# Altium footprint library Resistors SMD.PcbLib: 60 footprints (part 1 of 4)
Each footprint in its own frame and in the unit in brackets; x right, y up, seen from the top. Pads: shape width x height; smd on the part's side, far side on the other; paste and mask are expansions set on the pad; w line width, h text height; cw(c..) or ccw(c..) is an arc to the next point about the centre after c.
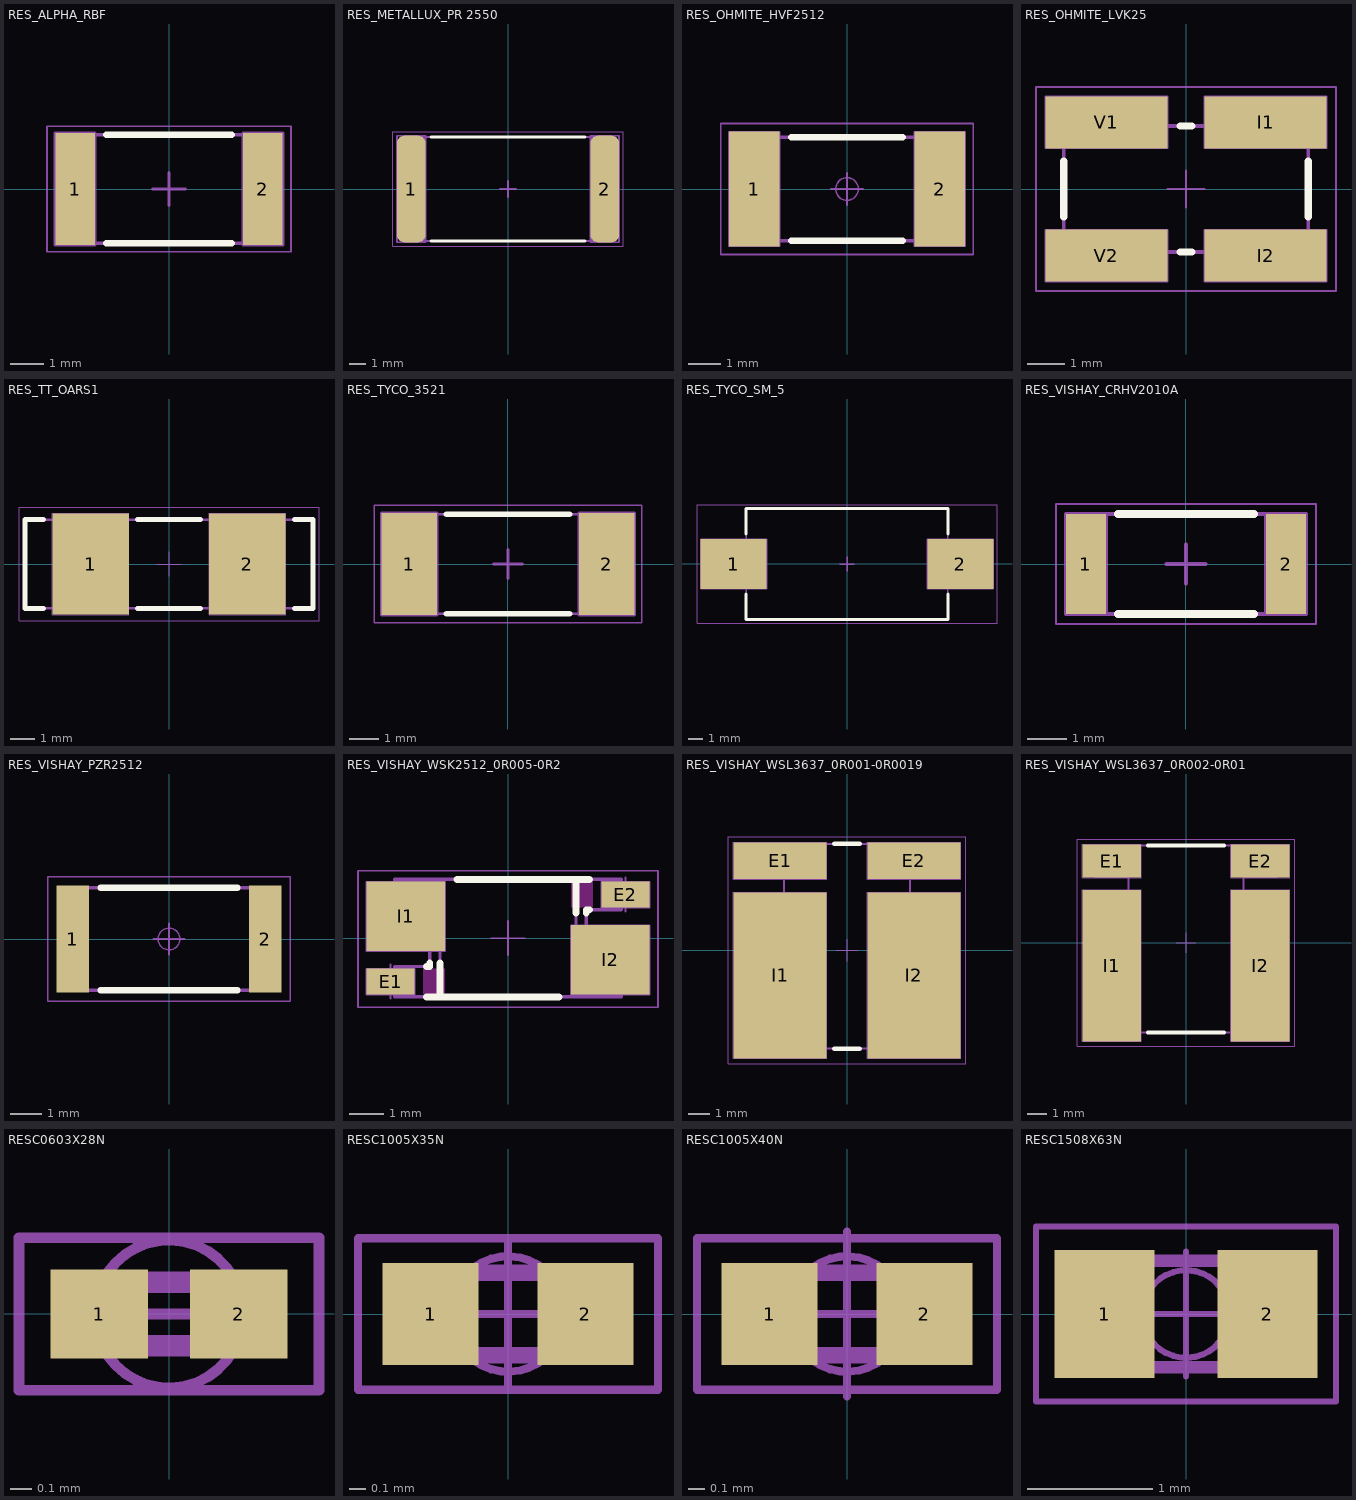
[diagram p0: the footprints below, top view; thin cyan lines are the x and y axes]

## RES_ALPHA_RBF [mm] "Chip Resistor, EIA 2512, Metric 6332, 2-Leads, Body 6.3mm L X 3.20mm W X 1.05mm H, ALPHA ELECTRONICS RBF Series"
height 1.05
pads (2):
  rect 1.2x3.4 smd: 1(-2.85,0) 2(2.85,0)
Top Overlay:
  lines w0.2: -1.9,-1.65 1.9,-1.65 ; -1.9,1.65 1.9,1.65
Mechanical 8:
  lines w0.1: -3.35,0 -2.85,0 ; -2.85,-0.5 -2.85,0 ; -2.85,0.5 -2.85,0 ; -2.35,0 -2.85,0 ; -0.5,0 0,0 ; 0,-0.5 0,0 ; 0,0.5 0,0 ; 0.5,0 0,0 ; 2.35,0 2.85,0 ; 2.85,-0.5 2.85,0 ; 2.85,0.5 2.85,0 ; 3.35,0 2.85,0 ; -3.45,-1.7 -2.25,-1.7 -2.25,1.7 -3.45,1.7 -3.45,-1.7 ; 2.25,-1.7 3.45,-1.7 3.45,1.7 2.25,1.7 2.25,-1.7
Mechanical 14:
  lines w0.1: -3.2,-1.65 -3.2,1.65 3.2,1.65 3.2,-1.65 -3.2,-1.65
Mechanical 15:
  lines w0.05: -3.7,-1.9 -3.7,1.9 3.7,1.9 3.7,-1.9 -3.7,-1.9
3D body "RES_ALPHA_RBF.stp": height 1.05, standoff 0, extent -3.2,-1.65 3.2,1.65

## RES_METALLUX_PR 2550 [mm] "High Voltage Resistor SMD Resistor, 2-Leads, Body 12.7 x 6.35 mm, IPC Medium Density"
height 1.52
pads (2):
  rrect50% 1.75x6.5 smd: 1(-5.9,0) 2(5.9,0)
Top Overlay:
  lines w0.2: -4.68,-3.175 4.68,-3.175 ; -4.68,3.175 4.68,3.175
Mechanical 8:
  lines w0.1: -6.4,0 -5.9,0 ; -5.9,-0.5 -5.9,0 ; -5.9,0.5 -5.9,0 ; -5.4,0 -5.9,0 ; -0.5,0 0,0 ; 0,-0.5 0,0 ; 0,0.5 0,0 ; 0.5,0 0,0 ; 5.4,0 5.9,0 ; 5.9,-0.5 5.9,0 ; 5.9,0.5 5.9,0 ; 6.4,0 5.9,0 ; -6.775,-3.25 -6.775,3.25 -5.025,3.25 -5.025,-3.25 -6.775,-3.25 ; 5.025,-3.25 5.025,3.25 6.775,3.25 6.775,-3.25 5.025,-3.25
Mechanical 14:
  lines w0.1: -6.35,-3.175 -6.35,3.175 ; -6.35,-3.175 6.35,-3.175 ; -6.35,-3.175 -5.08,-3.175 -5.08,3.175 -6.35,3.175 ; -6.35,-3.175 -6.35,3.175 ; -6.35,3.175 6.35,3.175 ; 6.35,-3.175 6.35,3.175 ; 6.35,-3.175 6.35,3.175 ; 6.35,-3.175 5.08,-3.175 5.08,3.175 6.35,3.175
Mechanical 15:
  lines w0.05: -7.025,-3.5 7.025,-3.5 7.025,3.5 -7.025,3.5 -7.025,-3.5
3D body "RES_METALLUX_PR 2550.stp": height 1.52, standoff 0, extent -6.35,-3.175 6.35,3.175

## RES_OHMITE_HVF2512 [mm] "Resistor, Chip; 6.4mm L X 3.2mm W X 0.81mm H, IPC Medium Density"
height 0.81
pads (2):
  rect 1.57x3.55 smd: 1(-2.87,0) 2(2.87,0)
Top Overlay:
  lines w0.2: -1.733,-1.6 1.733,-1.6 ; -1.733,1.6 1.733,1.6
Mechanical 8:
  lines w0.05: -3.37,0 -2.87,0 ; -2.87,-0.5 -2.87,0 ; -2.87,0.5 -2.87,0 ; -2.37,0 -2.87,0 ; -0.5,0 0,0 ; 0,-0.5 0,0 ; 0,0.5 0,0 ; 0.5,0 0,0 ; 2.37,0 2.87,0 ; 2.87,-0.5 2.87,0 ; 2.87,0.5 2.87,0 ; 3.37,0 2.87,0 ; -3.658,-1.778 -2.083,-1.778 -2.083,1.778 -3.658,1.778 -3.658,-1.778 ; 2.083,-1.778 2.083,1.778 3.658,1.778 3.658,-1.778 2.083,-1.778
Mechanical 14:
  lines w0.1: -3.2,-1.6 3.2,-1.6 3.2,1.6 -3.2,1.6 -3.2,-1.6
Mechanical 15:
  circle w0.05: c0,0 r0.35
  lines w0.05: -0.5,0 0.5,0 ; 0,-0.5 0,0.5 ; -3.908,-2.028 3.908,-2.028 3.908,2.028 -3.908,2.028 -3.908,-2.028
3D body "RES_OHMITE_HVF2512.stp": height 0.81, standoff 0, extent -3.2,-1.6 3.2,1.6

## RES_OHMITE_LVK25 [mm] "Resistor Four Terminal High Precision Current Sense, Chip; 3.2mm L X 6.4mm W X 0.7mm H"
height 0.7
pads (4):
  rect 3.3x1.4 smd: I1(2.15,1.8) I2(2.15,-1.8) V1(-2.15,1.8) V2(-2.15,-1.8)
Top Overlay:
  lines w0.2: -3.3,-0.75 -3.3,0.75 ; -0.15,-1.7 0.15,-1.7 ; -0.15,1.7 0.15,1.7 ; 3.3,-0.75 3.3,0.75
Mechanical 8:
  lines w0.05: -2.65,-1.8 -2.15,-1.8 ; -2.65,1.8 -2.15,1.8 ; -2.15,-2.3 -2.15,-1.8 ; -2.15,-1.3 -2.15,-1.8 ; -2.15,1.3 -2.15,1.8 ; -2.15,2.3 -2.15,1.8 ; -1.65,-1.8 -2.15,-1.8 ; -1.65,1.8 -2.15,1.8 ; 0,-0.5 0,0 ; 0,0.5 0,0 ; 0.5,0 0,0 ; 1.65,-1.8 2.15,-1.8 ; 1.65,1.8 2.15,1.8 ; 2.15,-2.3 2.15,-1.8 ; 2.15,-1.3 2.15,-1.8 ; 2.15,1.3 2.15,1.8 ; 2.15,2.3 2.15,1.8 ; 2.65,-1.8 2.15,-1.8 ; 2.65,1.8 2.15,1.8 ; 0,0 -0.5,0 0,0 ; -3.8,-2.5 -0.5,-2.5 -0.5,-1.1 -3.8,-1.1 -3.8,-2.5 ; -3.8,1.1 -3.8,2.5 -0.5,2.5 -0.5,1.1 -3.8,1.1 ; 0.5,-2.5 3.8,-2.5 3.8,-1.1 0.5,-1.1 0.5,-2.5 ; 0.5,1.1 3.8,1.1 3.8,2.5 0.5,2.5 0.5,1.1
Mechanical 14:
  lines w0.1: -3.3,-1.7 3.3,-1.7 3.3,1.7 -3.3,1.7 -3.3,-1.7
Mechanical 15:
  lines w0.05: -4.05,-2.75 4.05,-2.75 4.05,2.75 -4.05,2.75 -4.05,-2.75
3D body "RES_OHMITE_LVK25.stp": height 0.7, standoff 0, extent -3.2,-1.6 3.2,1.6

## RES_TT_OARS1 [mm] "CSurface Mount Sense Resistors"
height 3.81
pads (2):
  rect 3.07x4.07 smd: 1(-3.15,0) 2(3.15,0)
Top Overlay:
  lines w0.2: -5.035,-1.78 -5.78,-1.78 -5.78,1.78 -5.035,1.78 ; -1.265,-1.78 1.265,-1.78 ; -1.265,1.78 1.265,1.78 ; 5.035,-1.78 5.78,-1.78 5.78,1.78 5.035,1.78
Mechanical 8:
  lines w0.05: -3.65,0 -3.15,0 ; -3.15,-0.5 -3.15,0 ; -3.15,0.5 -3.15,0 ; -2.65,0 -3.15,0 ; -0.5,0 0,0 ; 0,-0.5 0,0 ; 0,0.5 0,0 ; 0.5,0 0,0 ; 2.65,0 3.15,0 ; 3.15,-0.5 3.15,0 ; 3.15,0.5 3.15,0 ; 3.65,0 3.15,0 ; -4.685,-2.035 -1.615,-2.035 -1.615,2.035 -4.685,2.035 -4.685,-2.035 ; 1.615,-2.035 4.685,-2.035 4.685,2.035 1.615,2.035 1.615,-2.035
Mechanical 14:
  lines w0.1: -5.78,-1.78 5.78,-1.78 5.78,1.78 -5.78,1.78 -5.78,-1.78
Mechanical 15:
  lines w0.05: -6.03,-2.285 -6.03,2.285 6.03,2.285 6.03,-2.285 -6.03,-2.285
3D body "RES_TT_OARS1.stp": height 3.81, standoff 0, extent -5.78,-1.78 5.78,1.78

## RES_TYCO_3521 [mm] "Chip Resistor, EIA 2512, Metric 6332, 2-Leads, Body 6.3x3.2mm, 3521 Serie"
height 0.65
pads (2):
  rect 1.9x3.5 smd: 1(-3.378,0) 2(3.378,0)
Top Overlay:
  lines w0.2: -2.1,-1.7 2.1,-1.7 ; -2.1,1.7 2.1,1.7
Mechanical 8:
  lines w0.1: -3.878,0 -3.378,0 ; -3.378,-0.5 -3.378,0 ; -3.378,0.5 -3.378,0 ; -2.878,0 -3.378,0 ; -0.5,0 0,0 ; 0,-0.5 0,0 ; 0,0.5 0,0 ; 0.5,0 0,0 ; 2.878,0 3.378,0 ; 3.378,-0.5 3.378,0 ; 3.378,0.5 3.378,0 ; 3.878,0 3.378,0 ; -4.328,-1.75 -2.428,-1.75 -2.428,1.75 -4.328,1.75 -4.328,-1.75 ; 2.428,-1.75 4.328,-1.75 4.328,1.75 2.428,1.75 2.428,-1.75
Mechanical 14:
  lines w0.1: -2.45,-1.7 -2.45,1.7 ; -2.1,-1.7 2.1,-1.7 ; 2.45,-1.7 2.45,1.7 ; -3.25,-1.7 3.25,-1.7 3.25,1.7 -3.25,1.7 -3.25,-1.7
Mechanical 15:
  lines w0.05: -4.578,-2 4.578,-2 4.578,2 -4.578,2 -4.578,-2
3D body "RES_TYCO_3521.stp": height 0.65, standoff 0, extent -3.25,-1.7 3.25,1.7

## RES_TYCO_SM_5 [mm] "Resistor, Molded Body; 17.00mm L X 7.30mm W X 7.10mm H, SM 5W Series"
height 7.1
pads (2):
  rect 4.5x3.4 smd: 1(-7.75,0) 2(7.75,0)
Top Overlay:
  lines w0.2: -6.9,-2.05 -6.9,-3.8 6.9,-3.8 6.9,-2.05 ; -6.9,2.05 -6.9,3.8 6.9,3.8 6.9,2.05
Mechanical 8:
  lines w0.1: -8.25,0 -7.75,0 ; -7.75,-0.5 -7.75,0 ; -7.75,0.5 -7.75,0 ; -7.25,0 -7.75,0 ; -0.5,0 0,0 ; 0,-0.5 0,0 ; 0,0.5 0,0 ; 0.5,0 0,0 ; 7.25,0 7.75,0 ; 7.75,-0.5 7.75,0 ; 7.75,0.5 7.75,0 ; 8.25,0 7.75,0 ; -10,-1.7 -5.5,-1.7 -5.5,1.7 -10,1.7 -10,-1.7 ; 5.5,-1.7 10,-1.7 10,1.7 5.5,1.7 5.5,-1.7
Mechanical 14:
  lines w0.1: -6.9,-3.8 6.9,-3.8 6.9,3.8 -6.9,3.8 -6.9,-3.8
Mechanical 15:
  lines w0.05: -10.25,-4.05 10.25,-4.05 10.25,4.05 -10.25,4.05 -10.25,-4.05
3D body "RES_TYCO_SM_5.stp": height 7.1, standoff 0, extent -8.5,-3.8 8.5,3.8

## RES_VISHAY_CRHV2010A [mm] "EIA 2010, Metric 5125, High Voltage Thick Film Chip Resistor, 5.08mm L X 2.54mm W X 0.69mm H"
height 0.69
pads (2):
  rect 1.02x2.54 smd: 1(-2.54,0) 2(2.54,0)
Top Overlay:
  lines w0.2: -1.73,-1.27 1.73,-1.27 ; -1.73,1.27 1.73,1.27
Mechanical 8:
  lines w0.1: -3.04,0 -2.54,0 ; -2.54,-0.5 -2.54,0 ; -2.54,0.5 -2.54,0 ; -2.04,0 -2.54,0 ; -0.5,0 0,0 ; 0,-0.5 0,0 ; 0,0.5 0,0 ; 0.5,0 0,0 ; 2.04,0 2.54,0 ; 2.54,-0.5 2.54,0 ; 2.54,0.5 2.54,0 ; 3.04,0 2.54,0 ; -3.05,-1.27 -2.03,-1.27 -2.03,1.27 -3.05,1.27 -3.05,-1.27 ; 2.03,-1.27 3.05,-1.27 3.05,1.27 2.03,1.27 2.03,-1.27
Mechanical 14:
  lines w0.1: -2.057,-1.27 -2.057,1.27 ; 2.057,-1.27 2.057,1.27 ; -2.54,-1.27 2.54,-1.27 2.54,1.27 -2.54,1.27 -2.54,-1.27
Mechanical 15:
  lines w0.05: -3.3,-1.52 3.3,-1.52 3.3,1.52 -3.3,1.52 -3.3,-1.52
3D body "RES_VISHAY_CRHV2010A.stp": height 0.69, standoff 0, extent -2.54,-1.27 2.54,1.27

## RES_VISHAY_PZR2512 [mm] "EIA 2512, Metric 6433, Resistor, Chip; 6.35mm L X 3.30mm W X 0.627mm H, IPC Medium Density"
height 0.627
pads (2):
  rect 1.05x3.45 smd: 1(-3.1,0) 2(3.1,0)
Top Overlay:
  lines w0.2: -2.2,-1.65 2.2,-1.65 ; -2.2,1.65 2.2,1.65
Mechanical 14:
  lines w0.1: -3.175,-1.65 -3.175,1.65 3.175,1.65 3.175,-1.65 -3.175,-1.65
Mechanical 15:
  circle w0.05: c0,0 r0.35
  lines w0.05: -0.5,0 0.5,0 ; 0,-0.5 0,0.5 ; -3.9,-2 -3.9,2 3.9,2 3.9,-2 -3.9,-2
3D body "RES_VISHAY_PZR2512.stp": height 0.63, standoff 0, extent -3.175,-1.65 3.175,1.65

## RES_VISHAY_WSK2512_0R005-0R2 [mm] "EIA 2512, Metric 6332, Current Sense Resistor, Chip, 0.89mm H, IPC Medium Density"
height 0.89
pads (4):
  rect 1.4x0.76 smd: E1(-3.43,-1.27) E2(3.43,1.27)
  rect 2.29x2.03 smd: I1(-2.985,0.635) I2(2.985,-0.635)
Top Layer keep-out:
  region: 2.48,1.65 1.84,1.65 1.84,0.89 2.48,0.89
  rectangle: -2.48,-1.65 -1.84,-0.89
Top Overlay:
  lines w0.2: -2.38,-1.717 -1.985,-1.717 ; -2.38,-0.828 -2.286,-0.828 -2.286,-0.73 ; -1.49,1.717 1.985,1.717 ; 1.49,-1.717 -1.985,-1.717 ; 1.985,0.73 1.985,1.717 ; 2.286,0.73 2.286,0.828 2.38,0.828 ; 2.38,1.717 1.985,1.717 ; -1.985,-1.717 -1.985,-0.73 -1.985,-1.717
Mechanical 8:
  lines w0.05: -3.93,-1.27 -3.43,-1.27 ; -3.485,0.635 -2.985,0.635 ; -3.43,-1.77 -3.43,-1.27 ; -3.43,-0.77 -3.43,-1.27 ; -2.985,0.135 -2.985,0.635 ; -2.985,1.135 -2.985,0.635 ; -2.93,-1.27 -3.43,-1.27 ; -2.485,0.635 -2.985,0.635 ; -0.5,0 0,0 ; 0,-0.5 0,0 ; 0,0.5 0,0 ; 0.5,0 0,0 ; 2.485,-0.635 2.985,-0.635 ; 2.93,1.27 3.43,1.27 ; 2.985,-1.135 2.985,-0.635 ; 2.985,-0.135 2.985,-0.635 ; 3.43,0.77 3.43,1.27 ; 3.43,1.77 3.43,1.27 ; 3.485,-0.635 2.985,-0.635 ; 3.93,1.27 3.43,1.27 ; -4.13,-1.65 -2.73,-1.65 -2.73,-0.89 -4.13,-0.89 -4.13,-1.65 ; -4.13,-0.38 -4.13,1.65 -1.84,1.65 -1.84,-0.38 -4.13,-0.38 ; 1.84,-1.65 4.13,-1.65 4.13,0.38 1.84,0.38 1.84,-1.65 ; 2.73,0.89 2.73,1.65 4.13,1.65 4.13,0.89 2.73,0.89
Mechanical 14:
  lines w0.1: -1.985,-1.717 -1.985,1.717 ; -1.985,-1.717 -3.302,-1.717 -3.302,-0.828 -2.286,-0.828 -2.286,-0.32 -3.302,-0.32 -3.302,1.717 -1.985,1.717 ; -1.985,-1.717 1.985,-1.717 ; -1.985,-1.717 -1.985,1.717 ; -1.985,1.717 1.985,1.717 ; 1.985,-1.717 3.302,-1.717 3.302,0.32 2.286,0.32 2.286,0.828 3.302,0.828 3.302,1.717 1.985,1.717 ; 1.985,-1.717 1.985,1.717 ; 1.985,-1.717 1.985,1.717
Mechanical 15:
  lines w0.05: -4.38,-2.02 -4.38,1.967 4.38,1.967 4.38,-2.02 -4.38,-2.02
3D body "RES_VISHAY_WSK2512_0R005-0R2.stp": height 0.89, standoff 0, extent -3.302,-1.717 3.302,1.717

## RES_VISHAY_WSL3637_0R001-0R0019 [mm] "EIA 3637, Metric 9194, Current Sense Resistor, Chip, 0.89mm H, IPC Medium Density"
height 0.89
pads (4):
  rect 4.27x1.68 smd: E1(-3.075,4.115) E2(3.075,4.115)
  rect 4.27x7.62 smd: I1(-3.075,-1.145) I2(3.075,-1.145)
Top Overlay:
  lines w0.2: -0.59,-4.51 0.59,-4.51 ; -0.59,4.89 0.59,4.89
Mechanical 8:
  lines w0.05: -3.575,-1.145 -3.075,-1.145 ; -3.575,4.115 -3.075,4.115 ; -3.075,-1.645 -3.075,-1.145 ; -3.075,-0.645 -3.075,-1.145 ; -3.075,3.615 -3.075,4.115 ; -3.075,4.615 -3.075,4.115 ; -2.575,-1.145 -3.075,-1.145 ; -2.575,4.115 -3.075,4.115 ; -0.5,0 0,0 ; 0,-0.5 0,0 ; 0,0.5 0,0 ; 0.5,0 0,0 ; 2.575,4.115 3.075,4.115 ; 3.075,3.615 3.075,4.115 ; 3.075,4.615 3.075,4.115 ; 3.575,4.115 3.075,4.115 ; 3.075,-1.145 2.575,-1.145 3.075,-1.145 ; 3.075,-1.145 3.575,-1.145 3.075,-1.145 ; 3.075,-1.145 3.075,-1.645 3.075,-1.145 ; 3.075,-1.145 3.075,-0.645 3.075,-1.145 ; -5.21,-4.955 -5.21,2.665 -0.94,2.665 -0.94,-4.955 -5.21,-4.955 ; -5.21,3.275 -0.94,3.275 -0.94,4.955 -5.21,4.955 -5.21,3.275 ; 0.94,-4.955 0.94,2.665 5.21,2.665 5.21,-4.955 0.94,-4.955 ; 0.94,3.275 5.21,3.275 5.21,4.955 0.94,4.955 0.94,3.275
Mechanical 14:
  lines w0.1: -4.57,-4.51 0,-4.51 4.57,-4.51 4.57,2.527 2.89,2.527 2.89,3.34 4.57,3.34 4.57,4.89 0,4.89 -4.57,4.89 -4.57,3.34 -2.89,3.34 -2.89,2.527 -4.57,2.527 -4.57,-4.51
Mechanical 15:
  lines w0.05: -5.46,-5.205 -5.46,5.205 -5.21,5.205 5.46,5.205 5.46,4.955 5.46,-5.205 5.21,-5.205 -5.21,-5.205 -5.46,-5.205
3D body "RES_VISHAY_WSL3637_0R001-0R0019.stp": height 0.89, standoff 0, extent -4.57,-4.51 4.57,4.89

## RES_VISHAY_WSL3637_0R002-0R01 [mm] "EIA 3637, Metric 9194, Current Sense Resistor, Chip, 0.89mm H, IPC Medium Density"
height 0.89
pads (4):
  rect 2.95x1.68 smd: E1(-3.735,4.115) E2(3.735,4.115)
  rect 2.95x7.62 smd: I1(-3.735,-1.145) I2(3.735,-1.145)
Top Overlay:
  lines w0.2: -1.91,-4.51 1.91,-4.51 ; -1.91,4.89 1.91,4.89
Mechanical 8:
  lines w0.05: -4.235,-1.145 -3.735,-1.145 ; -4.235,4.115 -3.735,4.115 ; -3.735,-1.645 -3.735,-1.145 ; -3.735,-0.645 -3.735,-1.145 ; -3.735,3.615 -3.735,4.115 ; -3.735,4.615 -3.735,4.115 ; -3.235,-1.145 -3.735,-1.145 ; -3.235,4.115 -3.735,4.115 ; -0.5,0 0,0 ; 0,-0.5 0,0 ; 0,0.5 0,0 ; 0.5,0 0,0 ; 3.235,4.115 3.735,4.115 ; 3.735,3.615 3.735,4.115 ; 3.735,4.615 3.735,4.115 ; 4.235,4.115 3.735,4.115 ; 3.735,-1.145 3.735,-0.645 3.735,-1.145 ; 3.735,-1.145 3.735,-1.645 3.735,-1.145 ; 3.735,-1.145 4.235,-1.145 3.735,-1.145 ; 3.735,-1.145 3.235,-1.145 3.735,-1.145 ; -5.21,-4.955 -2.26,-4.955 -2.26,2.665 -5.21,2.665 -5.21,-4.955 ; -5.21,3.275 -5.21,4.955 -2.26,4.955 -2.26,3.275 -5.21,3.275 ; 2.26,-4.955 5.21,-4.955 5.21,2.665 2.26,2.665 2.26,-4.955 ; 2.26,3.275 2.26,4.955 5.21,4.955 5.21,3.275 2.26,3.275
Mechanical 14:
  lines w0.1: -4.57,-4.51 -4.57,2.527 -2.89,2.527 -2.89,3.34 -4.57,3.34 -4.57,4.89 0,4.89 4.57,4.89 4.57,3.34 2.89,3.34 2.89,2.527 4.57,2.527 4.57,-4.51 0,-4.51 -4.57,-4.51
Mechanical 15:
  lines w0.05: -5.46,-5.205 -5.21,-5.205 5.21,-5.205 5.46,-5.205 5.46,4.955 5.46,5.205 -5.21,5.205 -5.46,5.205 -5.46,-5.205
3D body "RES_VISHAY_WSL3637_0R002-0R01.stp": height 0.89, standoff 0, extent -4.57,-4.51 4.57,4.89

## RESC0603X28N [mm] "Chip Resistor, EIA 0201, Metric 0603, Body 0.6 x 0.3mm, IPC Medium Density"
height 0.28
pads (2):
  rect 0.46x0.42 smd: 1(-0.33,0) 2(0.33,0)
Mechanical 14:
  lines w0.1: -0.3,-0.15 0.3,-0.15 0.3,0.15 -0.3,0.15 -0.3,-0.15
Mechanical 15:
  circle w0.05: c0,0 r0.35
  lines w0.05: -0.5,0 0.5,0 ; -0.71,-0.36 0.71,-0.36 0.71,0.36 -0.71,0.36 -0.71,-0.36
3D body "RESC0603X28N.stp": height 0.28, standoff 0, extent -0.325,-0.175 0.325,0.175

## RESC1005X35N [mm] "Chip Resistor, EIA 0402, Metric 1005, Body 1.0x0.5mm, IPC Medium Density"
height 0.35
pads (2):
  rect 0.58x0.62 smd: 1(-0.47,0) 2(0.47,0)
Mechanical 14:
  lines w0.1: -0.5,-0.25 0.5,-0.25 0.5,0.25 -0.5,0.25 -0.5,-0.25
Mechanical 15:
  circle w0.05: c0,0 r0.35
  lines w0.05: -0.5,0 0.5,0 ; 0,-0.46 0,0.46 ; -0.91,-0.46 0.91,-0.46 0.91,0.46 -0.91,0.46 -0.91,-0.46
3D body "RESC1005X35N.stp": height 0.35, standoff 0, extent -0.525,-0.275 0.525,0.275

## RESC1005X40N [mm] "Chip Resistor, EIA 0402, Metric 1005, Body 1.0x0.5mm, IPC Medium Density"
height 0.4
pads (2):
  rect 0.58x0.62 smd: 1(-0.47,0) 2(0.47,0)
Mechanical 14:
  lines w0.1: -0.5,-0.25 0.5,-0.25 0.5,0.25 -0.5,0.25 -0.5,-0.25
Mechanical 15:
  circle w0.05: c0,0 r0.35
  lines w0.05: -0.5,0 0.5,0 ; 0,-0.5 0,0.5 ; -0.91,-0.46 0.91,-0.46 0.91,0.46 -0.91,0.46 -0.91,-0.46
3D body "RESC1005X40N.stp": height 0.4, standoff 0, extent -0.525,-0.275 0.525,0.275

## RESC1508X63N [mm] "Chip Resistor, EIA 0603, Metric 1608, Body 1.5x0.8mm, IPC Medium Density"
height 0.63
pads (2):
  rect 0.8x1.02 smd: 1(-0.65,0) 2(0.65,0)
Mechanical 14:
  lines w0.1: -0.76,-0.425 0.76,-0.425 0.76,0.425 -0.76,0.425 -0.76,-0.425
Mechanical 15:
  circle w0.05: c0,0 r0.35
  lines w0.05: -0.5,0 0.5,0 ; 0,-0.5 0,0.5 ; -1.2,-0.7 1.2,-0.7 1.2,0.7 -1.2,0.7 -1.2,-0.7
3D body "RESC1508X63N.stp": height 0.63, standoff 0, extent -0.76,-0.425 0.76,0.425